# Altium footprint library MECH_Raspberry_Pi_3_case.PcbLib: 1 footprints
Each footprint in its own frame and in the unit in brackets; x right, y up, seen from the top. Pads: shape width x height; smd on the part's side, far side on the other; paste and mask are expansions set on the pad; w line width, h text height; cw(c..) or ccw(c..) is an arc to the next point about the centre after c.
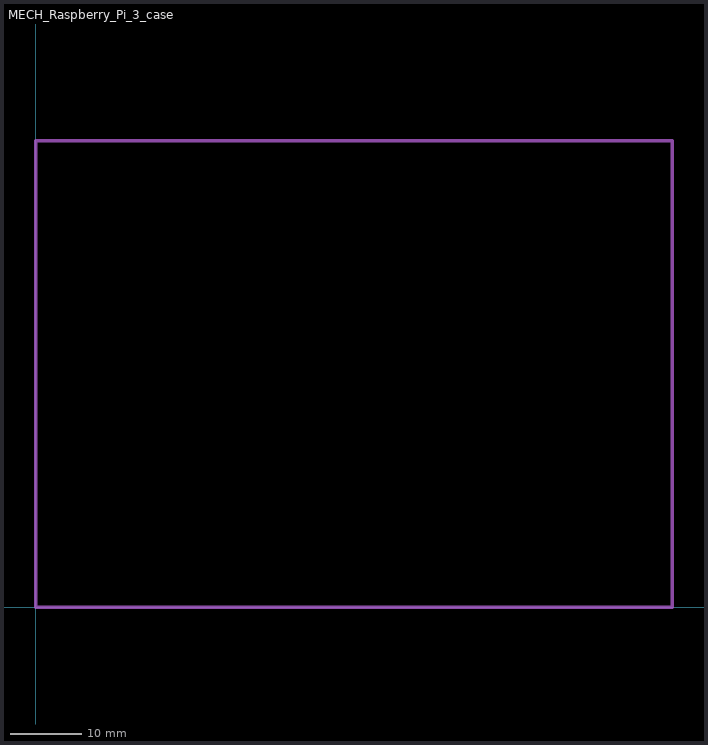
[diagram p0: the footprint, top view; thin cyan lines are the x and y axes]

## MECH_Raspberry_Pi_3_case [mm]
Mechanical 13:
  lines w0.508: 0,0 88.9,0 88.9,65.176 0,65.176 0,0
3D body "RPI3_case_3d_model-0-en.STEP": height 32, standoff 0, extent 0,0 88.9,65.2